# Altium footprint library PCB - CAPACITOR - ALUMINIUM - CAP ALSMD ELEC 12.5MM H13MM.pcblib: 1 footprints
Each footprint in its own frame and in the unit in brackets; x right, y up, seen from the top. Pads: shape width x height; smd on the part's side, far side on the other; paste and mask are expansions set on the pad; w line width, h text height; cw(c..) or ccw(c..) is an arc to the next point about the centre after c.
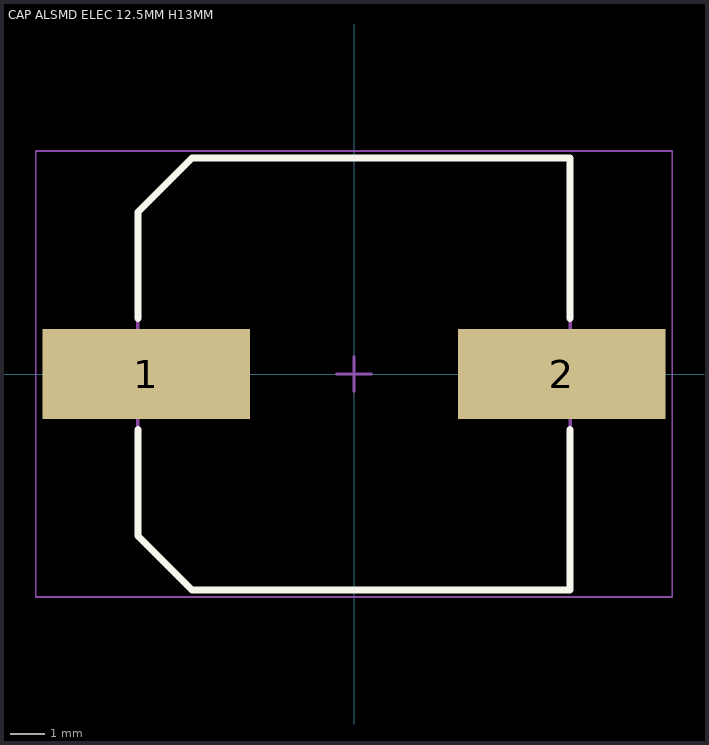
[diagram p0: the footprint, top view; thin cyan lines are the x and y axes]

## CAP ALSMD ELEC 12.5MM H13MM [mm] "Aluminum SMD Electrolytic Capacitor, 12.50mm Land Size, 12.50mm Diameter, 13.00mm Height, 14.90mm Maximum Leads Span"
height 1.3
pads (2):
  rect 6x2.6 smd: 1(-6,0) 2(6,0)
Top Overlay:
  lines w0.2: -6.25,-1.6 -6.25,-4.687 -4.687,-6.25 6.25,-6.25 6.25,-1.6 ; -6.25,1.6 -6.25,4.687 -4.687,6.25 6.25,6.25 6.25,1.6
Mechanical 13:
  lines w0.1: -6.25,-4.687 -6.25,4.687 -4.687,6.25 6.25,6.25 6.25,-6.25 -4.687,-6.25 -6.25,-4.687
Mechanical 15:
  lines w0.05: -9.2,-6.45 -9.2,6.45 9.2,6.45 9.2,-6.45 -9.2,-6.45
  lines w0.1: -0.5,0 0.5,0 ; 0,-0.5 0,0.5
3D body: height 13, standoff 0, extent -7.45,-6.25 7.45,6.25